# Altium schematic symbol library 3595.SchLib: 1 symbol
Pins are listed as number, name and electrical type; pins without a type are passive.

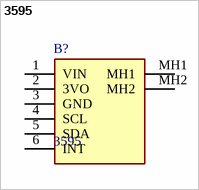
[diagram p0: symbol 3595]

## 3595
designator B?
Position Sensor Development Tools Adafruit APDS9960 Sensor; Geometry.Height: 3mm; Manufacturer_Name: Adafruit; Manufacturer_Part_Number: 3595; Mouser Part Number: 485-3595; Mouser Price/Stock: https://www.mouser.co.uk/ProductDetail/Adafruit/3595?qs=0lQeLiL1qyZKgCluEGGJeA%3D%3D; Arrow Part Number: 3595; Arrow Price/Stock: https://www.arrow.com/en/products/3595/adafruit-industries; Datasheet Link: https://cdn-learn.adafruit.com/downloads/pdf/adafruit-apds9960-breakout.pdf
footprint 3595
pins: 1 VIN, 2 3VO, 3 GND, 4 SCL, 5 SDA, 6 INT, MH1, MH2